# Altium schematic symbol library POT_DUAL.SchLib: 1 symbol
Pins are listed as number, name and electrical type; pins without a type are passive.

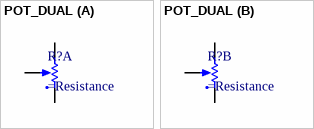
[diagram p0: symbol POT_DUAL]

## POT_DUAL
designator R?
part A pins: 1 BOT, 2 TAP, 3 TOP
part B pins: 4 BOT, 5 TAP, 6 TOP